# EAGLE library part FAN7842 (library wooddy)
FAN7842
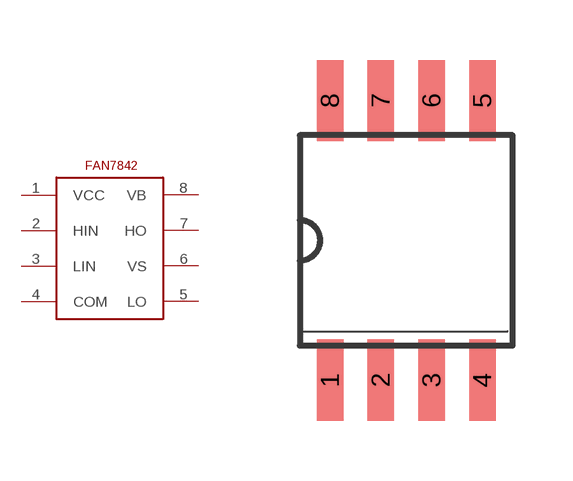
[diagram p0: symbol with the pads of 8-SOP; footprint 8-SOP]

Designator prefix FAN7842

## FAN7842  [8-SOP]
1  VCC
2  HIN
3  LIN
4  COM
5  LO
6  VS
7  HO
8  VB

## Footprint 8-SOP (pad centres in mm)
FAN7842
smd 0.66 x 2.032: 1 -1.905,-3.498; 2 -0.635,-3.498; 3 0.635,-3.498; 4 1.905,-3.498; 5 1.905,3.498; 6 0.635,3.498; 7 -0.635,3.498; 8 -1.905,3.498